# Altium footprint library WH-NB73_V1.1.PcbLib: 3 footprints
Each footprint in its own frame and in the unit in brackets; x right, y up, seen from the top. Pads: shape width x height; smd on the part's side, far side on the other; paste and mask are expansions set on the pad; w line width, h text height; cw(c..) or ccw(c..) is an arc to the next point about the centre after c.
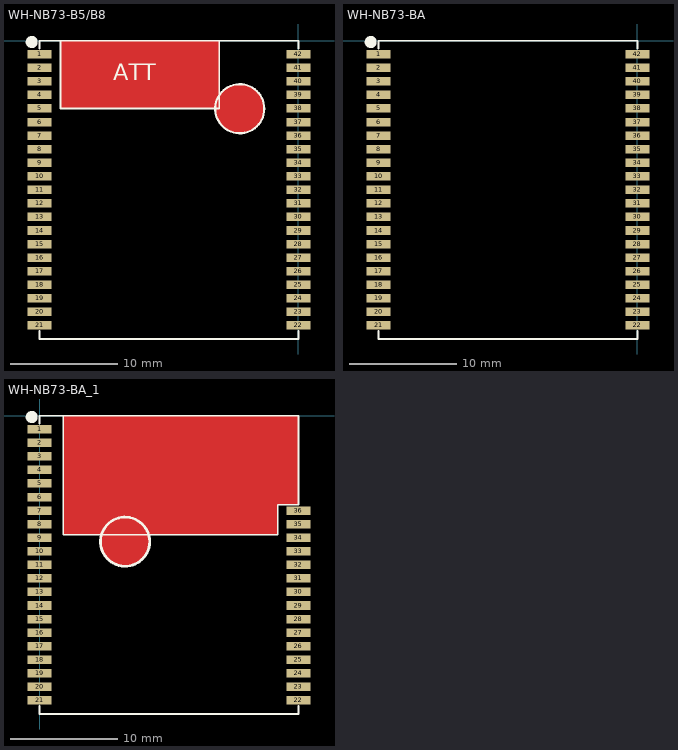
[diagram p0: the footprints below, top view; thin cyan lines are the x and y axes]

## WH-NB73-B5/B8 [mm]
pads (42):
  rect 2.25x0.8 smd: 1(-24.25,-1.27) 2(-24.25,-2.54) 3(-24.25,-3.81) 4(-24.25,-5.08) 5(-24.25,-6.35) 6(-24.25,-7.62) 7(-24.25,-8.89) 8(-24.25,-10.16) 9(-24.25,-11.43) 10(-24.25,-12.7) 11(-24.25,-13.97) 12(-24.25,-15.24) 13(-24.25,-16.51) 14(-24.25,-17.78) 15(-24.25,-19.05) 16(-24.25,-20.32) 17(-24.25,-21.59) 18(-24.25,-22.86) 19(-24.25,-24.13) 20(-24.25,-25.4) 21(-24.25,-26.67) 22(0,-26.67) 23(0,-25.4) 24(0,-24.13) 25(0,-22.86) 26(0,-21.59) 27(0,-20.32) 28(0,-19.05) 29(0,-17.78) 30(0,-16.51) 31(0,-15.24) 32(0,-13.97) 33(0,-12.7) 34(0,-11.43) 35(0,-10.16) 36(0,-8.89) 37(0,-7.62) 38(0,-6.35) 39(0,-5.08) 40(0,-3.81) 41(0,-2.54) 42(0,-1.27)
Top Layer:
  pour cut-out: -22.285,-6.35 -22.285,0 -7.426,0 -7.426,-6.35
  pour cut-out: -3.189,-6.375 -3.233,-5.923 -3.365,-5.489 -3.579,-5.088 -3.867,-4.737 -4.218,-4.449 -4.619,-4.235 -5.053,-4.103 -5.505,-4.059 -5.505,-4.07 -5.55,-4.059 -5.99,-4.102 -6.414,-4.231 -6.804,-4.439 -7.146,-4.72 -7.427,-5.062 -7.635,-5.452 -7.764,-5.876 -7.807,-6.316 -7.796,-6.316 -7.807,-6.37 -7.762,-6.825 -7.63,-7.262 -7.414,-7.665 -7.124,-8.018 -6.771,-8.308 -6.368,-8.524 -5.931,-8.656 -5.476,-8.701 -5.476,-8.69 -5.46,-8.701 -5.017,-8.657 -4.591,-8.528 -4.198,-8.318 -3.854,-8.036 -3.572,-7.692 -3.362,-7.299 -3.233,-6.873 -3.189,-6.43 -3.2,-6.43
Top Overlay:
  circle w0.559: c-24.987,-0.127 r0.284
  circle w0.2: c-5.5,-6.375 r2.3
  lines w0.152: -24.25,-27.178 -24.25,-27.94 0,-27.94 0,-27.178 ; -24.25,-0.762 -24.25,0 0,0 0,-0.762 ; -22.285,-2.54 -22.285,-6.35 -10.412,-6.35 -7.426,-6.35 -7.426,-5.08 -7.426,0 ; -22.285,-2.508 -22.285,0
  text "ATT" at -17.332,-3.683 h1.52

## WH-NB73-BA [mm] "EXTERNAL ANTENNA"
pads (42):
  rect 2.25x0.8 smd: 1(-24.25,-1.27) 2(-24.25,-2.54) 3(-24.25,-3.81) 4(-24.25,-5.08) 5(-24.25,-6.35) 6(-24.25,-7.62) 7(-24.25,-8.89) 8(-24.25,-10.16) 9(-24.25,-11.43) 10(-24.25,-12.7) 11(-24.25,-13.97) 12(-24.25,-15.24) 13(-24.25,-16.51) 14(-24.25,-17.78) 15(-24.25,-19.05) 16(-24.25,-20.32) 17(-24.25,-21.59) 18(-24.25,-22.86) 19(-24.25,-24.13) 20(-24.25,-25.4) 21(-24.25,-26.67) 22(0,-26.67) 23(0,-25.4) 24(0,-24.13) 25(0,-22.86) 26(0,-21.59) 27(0,-20.32) 28(0,-19.05) 29(0,-17.78) 30(0,-16.51) 31(0,-15.24) 32(0,-13.97) 33(0,-12.7) 34(0,-11.43) 35(0,-10.16) 36(0,-8.89) 37(0,-7.62) 38(0,-6.35) 39(0,-5.08) 40(0,-3.81) 41(0,-2.54) 42(0,-1.27)
Top Overlay:
  circle w0.559: c-24.987,-0.127 r0.284
  lines w0.152: -24.25,-27.178 -24.25,-27.94 0,-27.94 0,-27.178 ; -24.25,-0.762 -24.25,0 0,0 0,-0.762

## WH-NB73-BA_1 [mm] "INTERNAL ANTENNA"
pads (36):
  rect 2.25x0.8 smd: 1(0,-1.27) 2(0,-2.54) 3(0,-3.81) 4(0,-5.08) 5(0,-6.35) 6(0,-7.62) 7(0,-8.89) 8(0,-10.16) 9(0,-11.43) 10(0,-12.7) 11(0,-13.97) 12(0,-15.24) 13(0,-16.51) 14(0,-17.78) 15(0,-19.05) 16(0,-20.32) 17(0,-21.59) 18(0,-22.86) 19(0,-24.13) 20(0,-25.4) 21(0,-26.67) 22(24.25,-26.67) 23(24.25,-25.4) 24(24.25,-24.13) 25(24.25,-22.86) 26(24.25,-21.59) 27(24.25,-20.32) 28(24.25,-19.05) 29(24.25,-17.78) 30(24.25,-16.51) 31(24.25,-15.24) 32(24.25,-13.97) 33(24.25,-12.7) 34(24.25,-11.43) 35(24.25,-10.16) 36(24.25,-8.89)
Top Layer:
  pour cut-out: 7.95,-9.5 8.011,-9.489 8.461,-9.533 8.895,-9.665 9.294,-9.878 9.644,-10.165 9.931,-10.515 10.144,-10.914 10.276,-11.348 10.32,-11.798 10.309,-11.798 10.32,-11.831 10.276,-12.278 10.146,-12.707 9.934,-13.103 9.649,-13.45 9.302,-13.735 8.906,-13.947 8.477,-14.077 8.03,-14.121 8.03,-14.11 7.95,-14.121 7.509,-14.077 7.085,-13.949 6.694,-13.74 6.351,-13.459 6.07,-13.116 5.861,-12.725 5.733,-12.301 5.689,-11.86 5.7,-11.86 5.89,-10.87 6.47,-10.06 7.2,-9.67
  pour cut-out: 2.209,0 2.209,-11.135 22.312,-11.135 22.312,-8.336 24.25,-8.336 24.25,0
Bottom Layer:
  pour cut-out: 2.209,0.06 2.209,-11.075 22.312,-11.075 22.312,-8.276 24.25,-8.276 24.25,0.06
  pour cut-out: 7.98,-9.46 8.041,-9.449 8.491,-9.493 8.925,-9.625 9.324,-9.838 9.674,-10.125 9.961,-10.475 10.174,-10.874 10.306,-11.308 10.35,-11.758 10.339,-11.758 10.35,-11.791 10.306,-12.238 10.176,-12.667 9.964,-13.063 9.679,-13.41 9.332,-13.695 8.936,-13.907 8.507,-14.037 8.06,-14.081 8.06,-14.07 7.98,-14.081 7.539,-14.037 7.115,-13.909 6.724,-13.7 6.381,-13.419 6.1,-13.076 5.891,-12.685 5.763,-12.261 5.719,-11.82 5.73,-11.82 5.92,-10.83 6.5,-10.02 7.23,-9.63
Top Overlay:
  circle w0.559: c-0.737,-0.127 r0.284
  circle w0.254: c8.009,-11.798 r2.3
  lines w0.152: 0,-27.178 0,-27.94 24.25,-27.94 24.25,-27.178 ; 0,-0.762 0,0 24.25,0 24.25,-8.336 22.312,-8.336 22.312,-11.135 2.209,-11.135 2.209,0 ; 24.25,-6.35 24.25,-6.34